# EAGLE library part MICROMOTOR (library Faulhaber)
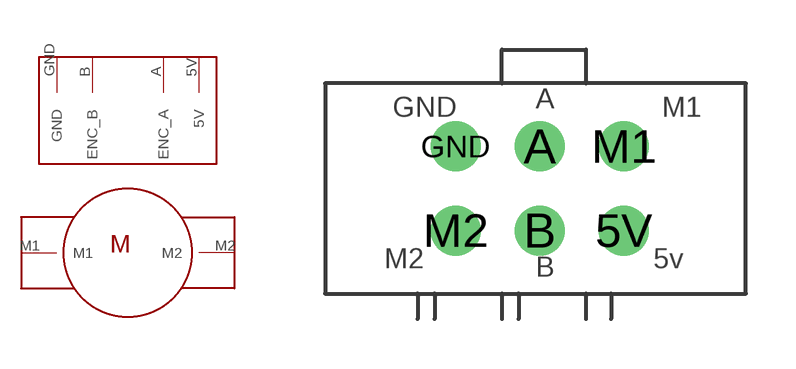
[diagram p0: symbol with the pads of SOCKET; footprint SOCKET]

Designator prefix -

## MICROMOTOR  [SOCKET]
5V  5V
A  ENC_A
B  ENC_B
GND  GND
M1  M1
M2  M2

## Footprint SOCKET (pad centres in mm)
drill 1 round: 5V 5.105,-0.051; A 2.565,2.489; B 2.565,-0.051; GND 0.025,2.489; M1 5.105,2.489; M2 0.025,-0.051